# EAGLE library part MPBI+ (library pbxl)
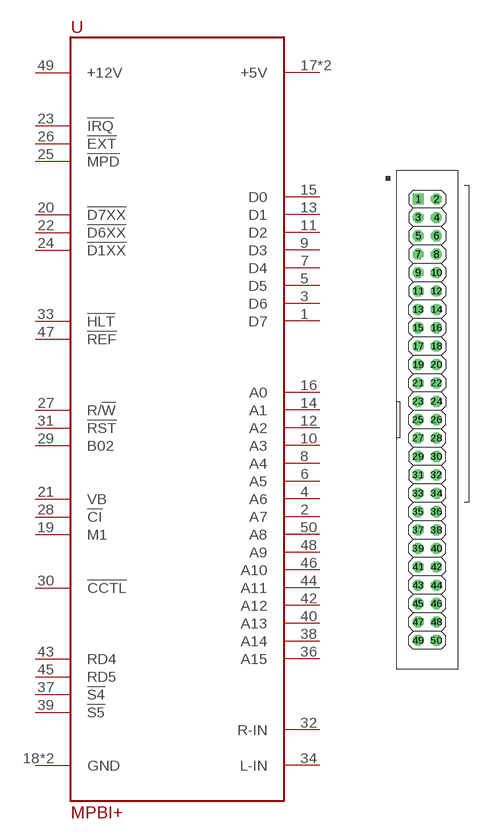
[diagram p6: symbol with the pads of 2X25; footprint 2X25]

Designator prefix -

## MPBI+  [2X25]
1  D7
2  A7
3  D6
4  A6
5  D5
6  A5
7  D4
8  A4
9  D3
10  A3
11  D2
12  A2
13  D1
14  A1
15  D0
16  A0
17  +5V
18  GND
19  M1
20  !D7XX!
21  VB
22  !D6XX!
23  !IRQ!
24  !D1XX!
25  !MPD!
26  !EXT!
27  R/!W!
28  !CI!
29  B02
30  !CCTL!
31  !RST!
32  R-IN
33  !HLT!
34  L-IN
35  GND
36  A15
37  !S4!
38  A14
39  !S5!
40  A13
41  +5V
42  A12
43  RD4
44  A11
45  RD5
46  A10
47  !REF!
48  A9
49  +12V
50  A8

## Footprint 2X25 (pad centres in mm)
PIN HEADER - 2.54
drill 1.016 square: 1 -1.27,30.48
drill 1.016 octagon: 2 1.27,30.48; 3 -1.27,27.94; 4 1.27,27.94; 5 -1.27,25.4; 6 1.27,25.4; 7 -1.27,22.86; 8 1.27,22.86; 9 -1.27,20.32; 10 1.27,20.32; 11 -1.27,17.78; 12 1.27,17.78; 13 -1.27,15.24; 14 1.27,15.24; 15 -1.27,12.7; 16 1.27,12.7; 17 -1.27,10.16; 18 1.27,10.16; 19 -1.27,7.62; 20 1.27,7.62; 21 -1.27,5.08; 22 1.27,5.08; 23 -1.27,2.54; 24 1.27,2.54; 25 -1.27,0; 26 1.27,0; 27 -1.27,-2.54; 28 1.27,-2.54; 29 -1.27,-5.08; 30 1.27,-5.08; 31 -1.27,-7.62; 32 1.27,-7.62; 33 -1.27,-10.16; 34 1.27,-10.16; 35 -1.27,-12.7; 36 1.27,-12.7; 37 -1.27,-15.24; 38 1.27,-15.24; 39 -1.27,-17.78; 40 1.27,-17.78; 41 -1.27,-20.32; 42 1.27,-20.32; 43 -1.27,-22.86; 44 1.27,-22.86; 45 -1.27,-25.4; 46 1.27,-25.4; 47 -1.27,-27.94; 48 1.27,-27.94; 49 -1.27,-30.48; 50 1.27,-30.48